# EAGLE library part MOTOR (library custom)
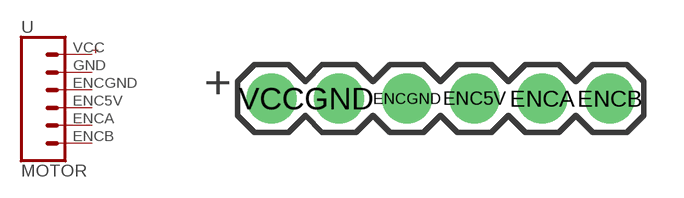
[diagram p0: symbol with the pads of MOTOR; footprint MOTOR]

Designator prefix -

## MOTOR  [MOTOR]
ENC5V  ENC5V  pas
ENCA  ENCA  pas
ENCB  ENCB  pas
ENCGND  ENCGND  pas
GND  GND  pas
VCC  VCC  pas

## Footprint MOTOR (pad centres in mm)
Plated Through Hole - 6 Pin Specifications: Pin count:6 Pin pitch:0.1" Example device(s): CONN_06
drill 1.016 pad 1.88: ENC5V 7.62,0; ENCA 10.16,0; ENCB 12.7,0; ENCGND 5.08,0; GND 2.54,0; VCC 0,0